# Altium schematic symbol library CPS.SchLib: 5 symbols
Pins are listed as number, name and electrical type; pins without a type are passive.

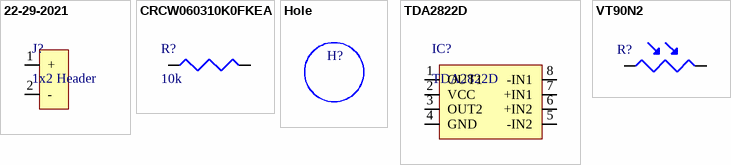
[diagram p0: symbols 22-29-2021 to VT90N2]

## 22-29-2021
designator J?, comment 1x2 Header
KK 254 Wire-to-Board Header, Vertical, with Friction Lock, 2 Circuits, Gold (Au) Plating; Manufacturer: Molex; Plating: 154ConductorMaterial; Voltage Rating (DC): 250V; Supplier 1: Mouser; Manufacturer Part Number: 22-29-2021; RoHS: Yes; Category: Headers and Wire Housings; Stock 1: 18304; Pricing 1: 1=0.45, 10=0.357, 50=0.357, 100=0.297, 1000=0.257, 10000=0.206 (USD); Reach SVHC Compliant: 4187SVHC
footprint Conector
pins: 1 +, 2 -

## CRCW060310K0FKEA
designator R?, comment 10k
SMD Chip Resistor, 10 kOhm, ± 1%, 100 mW, 0603 [1608 Metric], Thick Film, General Purpose; Manufacturer: Vishay; Manufacturer Part Number: CRCW060310K0FKEA; Resistance: 10kR; Power Rating: 100mW; Temperature Coefficient: 100ppm/°C; Voltage Rating: 75V; Supplier 1: Mouser; RoHS: Yes; Category: Chip SMD Resistors; Stock 1: 2811302; Pricing 1: 1=0.1, 10=0.017, 50=0.017, 100=0.01, 1000=0.008, 10000=0.004 (USD); Case/Package: 0603; Number of Pins: 2NUMBER; Case Code (Metric): 1608; Case Code (Imperial): 0603; Contact Plating: Tin; Size Code: 0603; Weight: 7.1E-05oz; Min Operating Temperature: -55°C; Max Operating Temperature: 155°C; Packaging: Tape and Reel; Tolerance: 1%; Termination: SMD/SMT; Series: CRCW; Max Power Dissipation: 100mW; Resistance Tolerance: 1%; Resistor Type: Thick Film; Number of Terminations: 2; Voltage Rating (DC): 75V; Features: Automotive AEC-Q200; Package Quantity: 10; Construction: Rectangular; Technology: THICK FILM; Length: 1.55mm; Width: 0.033inch; Height: 0.45mm; Depth: 0.85mm; Radiation Hardening: No; RoHS Compliant: Yes; Reach SVHC Compliant: Unknown; Lead Free: 5697LeadFree; Military Standard: Not; Supplier Part Number 1: 71-CRCW0603-10K-E3
footprint R0603 (Guidelines for Footprint Design - Walsin Technology Corporation)
pins: 1, 2

## Hole
designator H?
footprint Hole

## TDA2822D
designator IC?
Audio Amp Headphone/Speaker 1-CH Mono/2-CH Stereo 1W Class-AB 8-Pin SO N Tube; Manufacturer: STMicroelectronics; Supplier 1: Mouser; Manufacturer Part Number: TDA2822D; RoHS: Yes; Category: Amplifiers - Audio; Stock 1: 17648; Pricing 1: 1=2.18, 10=1.96, 50=1.85, 100=1.56, 1000=1.08, 10000=0.961 (USD); ComponentLink1URL: https://datasheet.ciiva.com/15131/getdatasheetpartid-132869-15131661.pdf?src-supplier=Verical; ComponentLink1Description: https://datasheet.ciiva.com/15131/getdatasheetpartid-132869-15131661.pdf?src-supplier=Verical; ComponentLink2URL: https://datasheet.ciiva.com/1481/1449855-1481709.pdf?src-supplier=Element14; ComponentLink2Description: https://datasheet.ciiva.com/1481/1449855-1481709.pdf?src-supplier=Element14; ComponentLink3URL: https://datasheet.ciiva.com/1789/cd00000133-1789121.pdf?src-supplier=Digikey; ComponentLink3Description: https://datasheet.ciiva.com/1789/cd00000133-1789121.pdf?src-supplier=Digikey; Supplier Part Number 1: 511-TDA2822D
footprint TDA2822D
pins: 1 OUT1, 2 VCC, 3 OUT2, 4 GND, 5 -IN2, 6 +IN2, 7 +IN1, 8 -IN1

## VT90N2
designator R?, comment 500k  (value not drawn)
Ldr, 500 Kohm, 80MW, VT900 Series; Manufacturer: Excelitas; Manufacturer Part Number: VT90N2; Supplier 1: Allied Electronics; RoHS: No; ComponentLink1URL: https://datasheet.ciiva.com/1249/612931-1249375.pdf?src-supplier=Element14; ComponentLink1Description: https://datasheet.ciiva.com/1249/612931-1249375.pdf?src-supplier=Element14; Supplier Part Number 1: 70219703
footprint Photoresistor
pins: 1, 2